# Altium footprint library PcbLib.PcbLib: 45 footprints (part 1 of 3)
Each footprint in its own frame and in the unit in brackets; x right, y up, seen from the top. Pads: shape width x height; smd on the part's side, far side on the other; paste and mask are expansions set on the pad; w line width, h text height; cw(c..) or ccw(c..) is an arc to the next point about the centre after c.
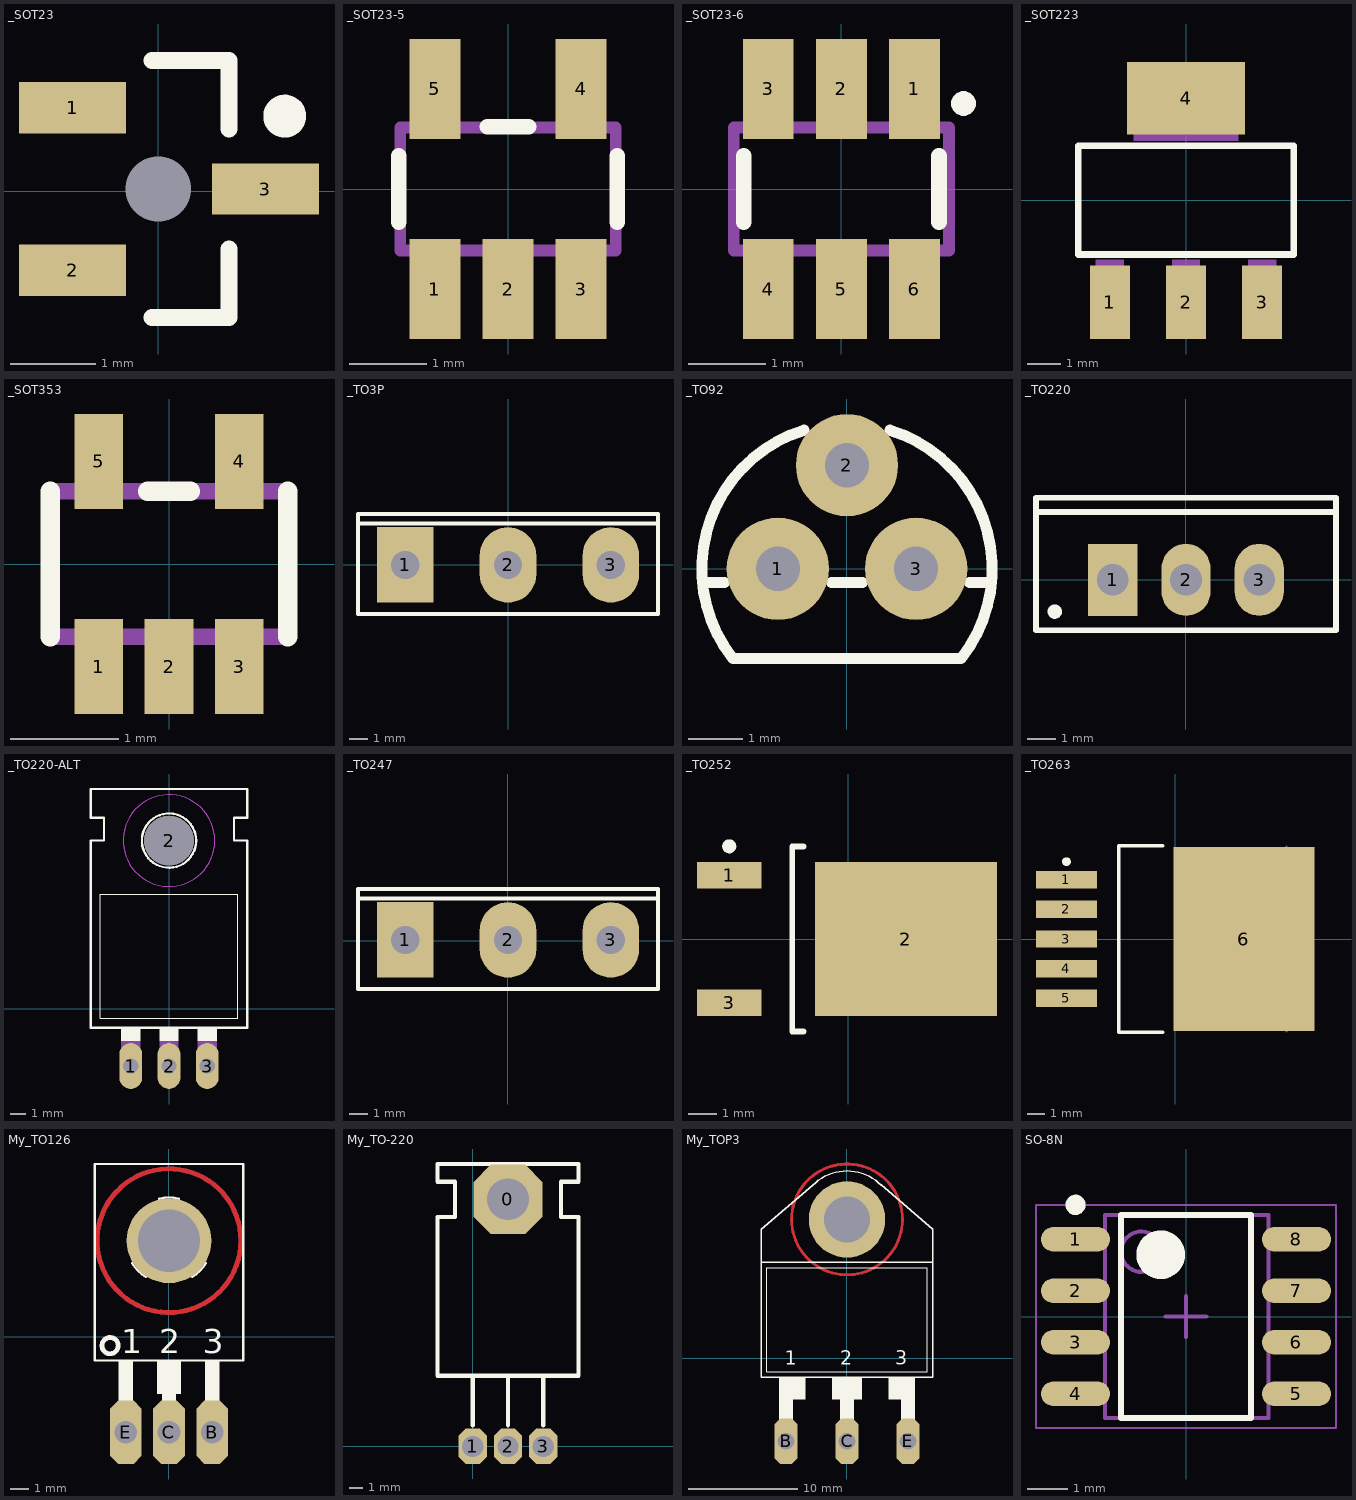
[diagram p0: the footprints below, top view; thin cyan lines are the x and y axes]

## _SOT23 [mm] "SOT23, 3-Leads, Body 2.9x1.3mm, Pitch 0.95mm, Lead Span 2.3mm - Reverse Pinning, IPC Medium Density"
height 1.1
pads (4):
  round 0 hole 0.762: 0(0,0.025)
  rect 1.25x0.6 smd: 1(-0.998,0.975) 2(-0.998,-0.925) 3(1.252,0.025)
Top Overlay:
  circle w0.25: c1.477,0.875 r0.125
  lines w0.2: -0.073,-1.475 0.827,-1.475 0.827,-0.675 ; -0.073,1.525 0.827,1.525 0.827,0.725

## _SOT23-5 [mm]
pads (5):
  rect 0.66x1.3 smd: 1(-0.95,-1.3) 2(0,-1.3) 3(0.95,-1.3) 4(0.95,1.3) 5(-0.95,1.3)
Top Overlay:
  lines w0.203: -1.422,-0.43 -1.422,0.43 ; -0.268,0.811 0.268,0.811 ; 1.422,-0.43 1.422,0.43
Mechanical 16:
  rectangle: -1.2,0.85 -0.7,1.5
  rectangle: 0.7,0.85 1.2,1.5
  rectangle: 0.7,-1.5 1.2,-0.85
  rectangle: -0.25,-1.5 0.25,-0.85
  rectangle: -1.2,-1.5 -0.7,-0.85
  lines w0.152: -1.4,-0.8 -1.4,0.8 1.4,0.8 1.4,-0.8 -1.4,-0.8

## _SOT23-6 [mm]
pads (6):
  rect 0.66x1.3 smd: 1(0.95,1.3) 2(0,1.3) 3(-0.95,1.3) 4(-0.95,-1.3) 5(0,-1.3) 6(0.95,-1.3)
Top Overlay:
  region: 1.429,1.111 1.429,1.08 1.453,1.021 1.498,0.977 1.556,0.953 1.587,0.953 1.619,0.953 1.677,0.977 1.722,1.021 1.746,1.08 1.746,1.111 1.746,1.143 1.722,1.201 1.677,1.246 1.619,1.27 1.587,1.27 1.556,1.27 1.498,1.246 1.453,1.201 1.429,1.143
  lines w0.203: -1.27,-0.43 -1.27,0.43 ; 1.27,-0.43 1.27,0.43
Mechanical 16:
  rectangle: -1.2,-1.5 -0.7,-0.85
  rectangle: -0.25,-1.5 0.25,-0.85
  rectangle: 0.7,-1.5 1.2,-0.85
  rectangle: 0.7,0.85 1.2,1.5
  rectangle: -1.2,0.85 -0.7,1.5
  region: 0.25,1.5 -0.25,1.5 -0.25,0.85 0.25,0.85
  lines w0.152: -1.4,-0.8 1.4,-0.8 1.4,0.8 -1.4,0.8 -1.4,-0.8

## _SOT223 [mil]
pads (4):
  rect 48x88 smd: 1(-91,-122) 2(0,-122) 3(91,-122)
  rect 141.73x86.61 smd: 4(0,122.01)
Top Overlay:
  lines w8: -129,-65 -129,65 129,65 129,-65 -129,-65
Mechanical 16:
  rectangle: 74,-144 108,-71
  rectangle: -108,-144 -74,-71
  rectangle: -17,-144 17,-71
  rectangle: -63,71 63,144
  rectangle: 74,-144 108,-71
  rectangle: -108,-144 -74,-71
  rectangle: -17,-144 17,-71
  rectangle: -63,71 63,144

## _SOT353 [mm]
pads (5):
  rect 0.45x0.88 smd: 1(-0.65,-0.95) 2(0,-0.95) 3(0.65,-0.95) 4(0.65,0.95) 5(-0.65,0.95)
Top Overlay:
  lines w0.178: -1.1,-0.675 -1.1,0.675 ; -0.2,0.675 0.2,0.675 ; 1.1,-0.675 1.1,0.675
Mechanical 16:
  region: -0.5,-0.7 -0.8,-0.7 -0.8,-1.1 -0.5,-1.1
  region: 0.15,-0.7 -0.15,-0.7 -0.15,-1.1 0.15,-1.1
  region: 0.8,-0.7 0.5,-0.7 0.5,-1.1 0.8,-1.1
  rectangle: -0.8,0.7 -0.5,1.1
  rectangle: 0.5,0.7 0.8,1.1
  lines w0.152: -1.1,-0.675 1.1,-0.675 1.1,0.675 -1.1,0.675 -1.1,-0.675

## _TO3P [mm]
pads (3):
  rect 3x4 hole 1.5: 1(-5.461,0)
  oval 3x4 hole 1.5: 2(-0.011,0) 3(5.439,0)
Top Overlay:
  lines w0.2: -7.961,2.2 7.939,2.2 ; -7.961,-2.6 -7.961,2.7 7.939,2.7 7.939,-2.6 -7.961,-2.6

## _TO92 [mil]
pads (3):
  round 74 hole 32: 1(-50,0) 2(0,75) 3(50,0)
Top Overlay:
  lines w8: -104.52,-10 -88.73,-10 ; -30.96,100.33 ccw(c0,0) -82.46,-65 82.46,-65 ccw(c0,0) 30.96,100.33 ; -11.27,-10 11.27,-10 ; 88.73,-10 104.52,-10

## _TO220 [mm] "TO, Thru-Hole, Vertical, Heatsink Mounted; 3 In-Line Leads; Pitch 2.54 mm"
height 19.7
pads (3):
  rect 1.7x2.5 hole 1.1: 1(-2.54,0)
  oval 1.7x2.5 hole 1.1: 2(0,0) 3(2.54,0)
Top Overlay:
  circle w0.25: c-4.55,-1.1 r0.125
  lines w0.2: -5.2,2.35 5.2,2.35 ; -5.2,-1.75 5.2,-1.75 5.2,2.85 -5.2,2.85 -5.2,-1.75
Mechanical 13:
  lines w0.1: -5.2,2.3 5.2,2.3 ; -5.2,-1.75 -5.2,2.85 5.2,2.85 5.2,-1.75 -5.2,-1.75
Mechanical 15:
  lines w0.1: -0.5,0 0.5,0 ; 0,-0.5 0,0.5

## _TO220-ALT [mil]
pads (4):
  oval 60x120 hole 40: 1(-100,-150) 2(0,-150) 3(100,-150)
  round 130 hole 130: 2(0,440)
Top Overlay:
  circle w6: c0,440 r71
  rectangle: 75,-85 125,-50
  rectangle: -25,-85 25,-50
  rectangle: -125,-85 -75,-50
  lines w2: -180,-25 180,-25 180,300 -180,300 -180,-25
  lines w6: -205,-50 205,-50 205,440 170,440 170,500 205,500 205,575 -205,575 -205,500 -170,500 -170,440 -205,440 -205,-50
Mechanical 9 keep-out:
  circle w0: c0,440 r120
Mechanical 10:
  circle w0: c0,440 r120
Mechanical 16:
  rectangle: 75,-150 125,-85
  rectangle: -25,-150 25,-85
  rectangle: -125,-150 -75,-85

## _TO247 [mm]
pads (3):
  rect 3x4 hole 1.5: 1(-5.425,0.051)
  oval 3x4 hole 1.5: 2(0.025,0.051) 3(5.475,0.051)
Top Overlay:
  lines w0.2: -7.925,2.251 7.975,2.251 ; -7.925,-2.549 -7.925,2.751 7.975,2.751 7.975,-2.549 -7.925,-2.549

## _TO252 [mm] "D-PAK, 4-Leads, Body 6.1x6.5mm, Pitch 2.28mm, Lead Span 9.7mm, IPC Medium Density"
height 2.4
pads (3):
  rect 2.3x0.95 smd: 1(-4.25,2.28) 3(-4.25,-2.28)
  rect 6.5x5.5 smd: 2(2.05,0)
Top Overlay:
  circle w0.25: c-4.25,3.305 r0.125
  lines w0.2: -1.6,-3.3 -2,-3.3 -2,3.3 -1.6,3.3
Mechanical 13:
  lines w0.1: -2,-3.3 -2,3.3

## _TO263 [mm] "D2-PAK, 6-Leads, Body 8.9x10.2mm, Pitch 1.7mm, Lead Span 15.2mm, IPC High Density"
height 4.83
pads (6):
  rect 3.5x1 smd: 1(-6.25,3.4) 2(-6.25,1.7) 3(-6.25,0) 4(-6.25,-1.7) 5(-6.25,-3.4)
  rect 8.1x10.6 smd: 6(3.95,0)
Top Overlay:
  circle w0.25: c-6.25,4.45 r0.125
  lines w0.2: -0.7,-5.35 -3.25,-5.35 -3.25,5.35 -0.7,5.35
Mechanical 13:
  lines w0.1: -3.25,-5.325 -3.25,5.325 ; 6.4,-5.325 6.4,5.325

## My_TO126 [mm]
pads (4):
  oct 1.676x3.353 hole 1.2: B(2.291,-5.076) C(0.005,-5.076) E(-2.281,-5.076)
  round 4.5 hole 3.3 unplated: ""(0.005,5.084)
Top Layer:
  circle w0.254: c0.005,5.084 r3.81
Bottom Layer:
  circle w0.254: c0.005,5.084 r3.81
Top Overlay:
  circle w0.127: c0.005,5.084 r1.651
  circle w0.254: c-3.119,-0.479 r0.432
  rectangle: 1.91,-5.203 2.672,-3.425
  rectangle: 1.91,-3.425 2.672,-1.266
  rectangle: -0.376,-5.203 0.386,-3.425
  rectangle: -0.376,-3.425 0.386,-1.266
  rectangle: -2.662,-5.203 -1.9,-3.425
  rectangle: -2.662,-3.425 -1.9,-1.266
  rectangle: -0.63,-3.044 0.64,-1.266
  lines w0.127: -1.474,4.349 -1.944,3.89 ccw(c0.005,5.084) -1.234,3.163 -0.764,3.623 ; -0.503,6.655 -0.503,7.313 cw(c0.005,5.084) 0.513,7.313 0.513,6.655 ; 0.774,3.623 1.244,3.163 ccw(c0.005,5.084) 1.954,3.889 1.484,4.349 ; -3.932,-1.266 3.942,-1.266 3.942,9.148 -3.932,9.148 -3.932,-1.266
  text "3" at 1.783,-0.885 h1.27
  text "2" at -0.503,-0.885 h1.27
  text "1" at -2.535,-0.885 h1.27

## My_TO-220 [mil]
pads (4):
  oct 196.85x196.85 hole 118.11: 0(99.49,699.49)
  oct 80x100 hole 60: 1(-0.5,-0.5) 2(99.5,-0.5) 3(199.5,-0.5)
Top Overlay:
  lines w12: -0.5,59.5 -0.5,199.5 ; 99.5,59.5 99.5,199.5 ; 199.5,59.5 199.5,199.5 ; -100.5,199.5 -100.5,649.5 -50.5,649.5 -50.5,749.5 -100.5,749.5 -100.5,799.5 299.5,799.5 299.5,749.5 249.5,749.5 249.5,649.5 299.5,649.5 299.5,199.5 -100.5,199.5

## My_TOP3 [mm]
pads (4):
  oct 2.096x4.191 hole 1.524: B(-5.583,-7.616) C(0.005,-7.616) E(5.593,-7.616)
  round 7 hole 4.2 unplated: ""(0.005,12.704)
Top Layer:
  circle w0.254: c0.005,12.704 r5.08
Bottom Layer:
  circle w0.254: c0.005,12.704 r5.08
Top Overlay:
  rectangle: 4.958,-7.616 6.228,-5.711
  rectangle: 4.958,-5.711 6.228,-3.806
  rectangle: -0.63,-7.616 0.64,-5.711
  rectangle: -0.63,-5.711 0.64,-3.806
  rectangle: -6.218,-7.616 -4.948,-5.711
  rectangle: -6.218,-5.711 -4.948,-3.806
  rectangle: 3.815,-3.806 6.228,-1.774
  rectangle: -1.392,-3.806 1.402,-1.774
  rectangle: -6.218,-3.806 -3.805,-1.774
  lines w0.051: -7.361,-1.266 -7.361,8.259 7.371,8.259 7.371,-1.266 -7.361,-1.266
  lines w0.127: -3.138,15.847 cw(c0.005,12.704) 0.005,17.149 cw(c0.005,12.704) 3.148,15.847 ; -3.119,15.853 -7.869,11.815 -7.869,8.767 ; 3.129,15.879 7.879,11.815 7.879,8.767 ; -7.869,8.767 7.879,8.767 ; -7.869,8.767 -7.869,-1.774 7.879,-1.774 7.879,8.767
  text "3" at 4.45,-0.631 h1.27
  text "2" at -0.63,-0.631 h1.27
  text "1" at -5.71,-0.631 h1.27

## SO-8N [mm] "SOIC, 8-Leads, Body 4/89x3/90mm, Pitch 1/27mm, IPC Medium Density designer:abbas basereh"
height 1.5
pads (8):
  oval 1.7x0.6 smd mask+0.06: 1(-2.725,1.905) 2(-2.725,0.635) 3(-2.725,-0.635) 4(-2.725,-1.905) 5(2.725,-1.905) 6(2.725,-0.635) 7(2.725,0.635) 8(2.725,1.905)
Top Overlay:
  circle w0.25: c-2.725,2.755 r0.125
  circle w0.6: c-0.625,1.525 r0.3
  lines w0.15: -1.6,-2.5 -1.6,2.5 1.6,2.5 1.6,-2.5 -1.6,-2.5
Mechanical 13:
  circle w0.1: c-1.1,1.6 r0.5
  lines w0.1: -2,-2.5 -2,2.5 2.032,2.5 2.032,-2.5 -2,-2.5
Mechanical 15:
  lines w0.05: -3.7,-2.75 -3.7,2.75 3.7,2.75 3.7,-2.75 -3.7,-2.75
  lines w0.1: -0.5,0 0.5,0 ; 0,-0.5 0,0.5
3D body "SOIC127P600X150-8N.step": height 1.5, standoff 0, extent -3,-2.5 3,2.5